# EAGLE library part MSI2500 (library MSI2500)
Mirics FlexiTVTM USB Interface IC Source: Datasheet <http://sdr.lt/~hexx/MSi2500.pdf>
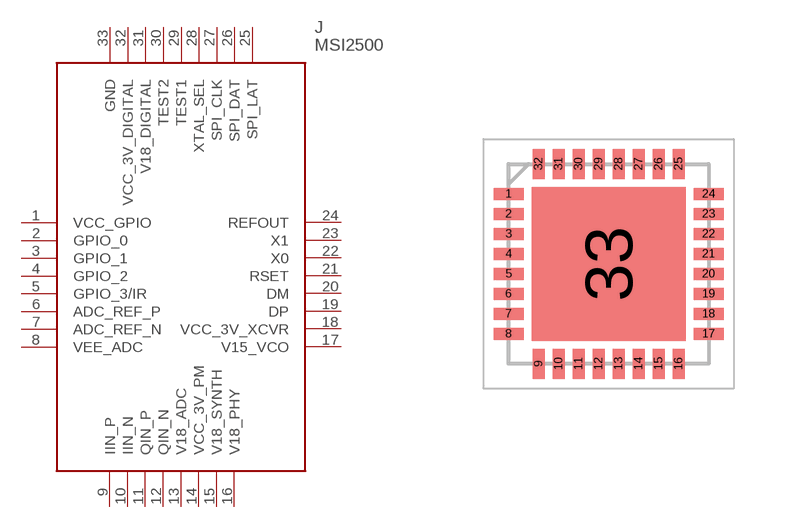
[diagram p0: symbol with the pads of QFN50P500X500X90-33N; footprint QFN50P500X500X90-33N]

Designator prefix J

## MSI2500 (Description: Mirics FlexiTVTM USB Interface IC; Height: 0.9mm; Manufacturer_Name: MIRICS; Manufacturer_Part_Number: MSI2500)  [QFN50P500X500X90-33N]
1  VCC_GPIO
2  GPIO_0
3  GPIO_1
4  GPIO_2
5  GPIO_3/IR
6  ADC_REF_P
7  ADC_REF_N
8  VEE_ADC
9  IIN_P
10  IIN_N
11  QIN_P
12  QIN_N
13  V18_ADC
14  VCC_3V_PM
15  V18_SYNTH
16  V18_PHY
17  V15_VCO
18  VCC_3V_XCVR
19  DP
20  DM
21  RSET
22  X0
23  X1
24  REFOUT
25  SPI_LAT
26  SPI_DAT
27  SPI_CLK
28  XTAL_SEL
29  TEST1
30  TEST2
31  V18_DIGITAL
32  VCC_3V_DIGITAL
33  GND

## Footprint QFN50P500X500X90-33N (pad centres in mm)
32lead qfn
smd 0.75 x 0.3: 1 -2.5,1.75; 2 -2.5,1.25; 3 -2.5,0.75; 4 -2.5,0.25; 5 -2.5,-0.25; 6 -2.5,-0.75; 7 -2.5,-1.25; 8 -2.5,-1.75; 17 2.5,-1.75; 18 2.5,-1.25; 19 2.5,-0.75; 20 2.5,-0.25; 21 2.5,0.25; 22 2.5,0.75; 23 2.5,1.25; 24 2.5,1.75
smd 0.3 x 0.75: 9 -1.75,-2.5; 10 -1.25,-2.5; 11 -0.75,-2.5; 12 -0.25,-2.5; 13 0.25,-2.5; 14 0.75,-2.5; 15 1.25,-2.5; 16 1.75,-2.5; 25 1.75,2.5; 26 1.25,2.5; 27 0.75,2.5; 28 0.25,2.5; 29 -0.25,2.5; 30 -0.75,2.5; 31 -1.25,2.5; 32 -1.75,2.5
smd 3.85 x 3.85: 33 0,0